# EAGLE library part THAT151X (library mixer)
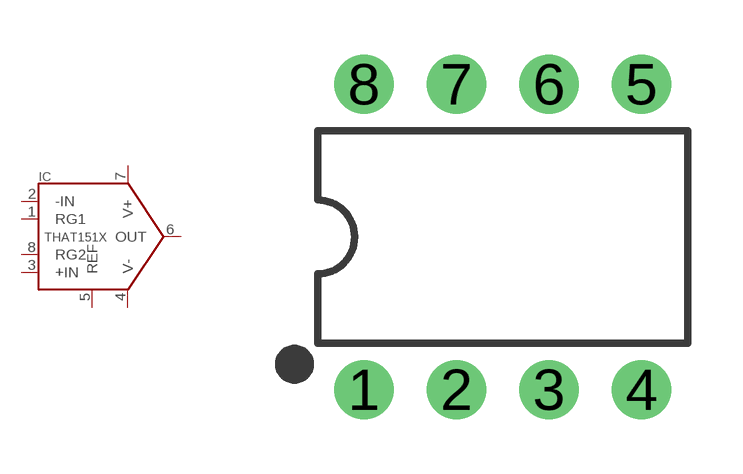
[diagram p0: symbol with the pads of DIP08-KIT; footprint DIP08-KIT]

Designator prefix IC

## THAT151X (MOUSER: 887-1512P08-U; VALUE: THAT1512)  [DIP08-KIT]
1  RG1
2  -IN
3  +IN
4  V-
5  REF
6  OUT
7  V+
8  RG2

## Footprint DIP08-KIT (pad centres in mm)
drill 0.813 pad 1.626: 1 -3.81,-4.191; 2 -1.27,-4.191; 3 1.27,-4.191; 4 3.81,-4.191; 5 3.81,4.191; 6 1.27,4.191; 7 -1.27,4.191; 8 -3.81,4.191